# EAGLE library part CC2500-NOANT (library dsal)
Radio module from AliExpress. http://www.aliexpress.com/item/CC2500-SPI-2-4GHz-Wireless-Transceiver-Module/32610339676.html
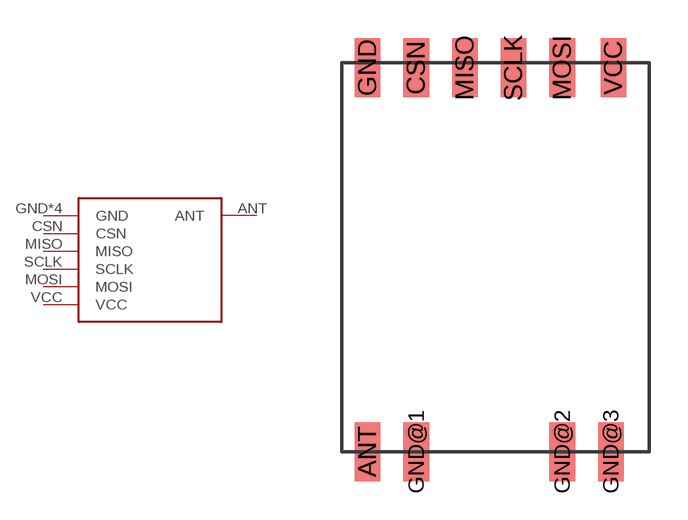
[diagram p0: symbol with the pads of CC2500-SMD; footprint CC2500-SMD]

Designator prefix -

## CC2500-NOANT  [CC2500-SMD]
ANT  ANT
CSN  CSN
GND  GND
GND@1  GND
GND@2  GND
GND@3  GND
MISO  MISO
MOSI  MOSI
SCLK  SCLK
VCC  VCC

## Footprint CC2500-SMD (pad centres in mm)
smd 1 x 2.3: ANT -8.5,0; CSN -6.6,15; GND -8.5,15; GND@1 -6.6,0; GND@2 -0.9,0; GND@3 1,0; MISO -4.7,15; MOSI -0.9,15; SCLK -2.8,15; VCC 1.1,15